# EAGLE library part TPS61027 (library IC)
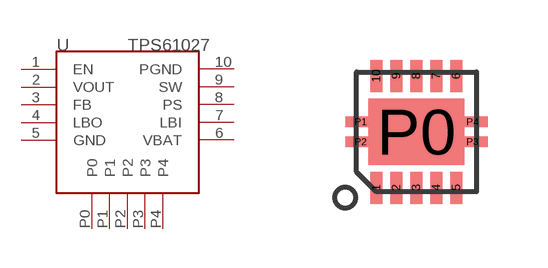
[diagram p144: symbol with the pads of QFN10; footprint QFN10]

Designator prefix U

## TPS61027  [QFN10]
1  EN
2  VOUT
3  FB
4  LBO
5  GND
6  VBAT
7  LBI
8  PS
9  SW
10  PGND
P0  P0
P1  P1
P2  P2
P3  P3
P4  P4

## Footprint QFN10 (pad centres in mm)
smd 0.3 x 0.8: 1 -1,-1.4; 2 -0.5,-1.4; 3 0,-1.4; 4 0.5,-1.4; 5 1,-1.4; 6 1,1.4; 7 0.5,1.4; 8 0,1.4; 9 -0.5,1.4; 10 -1,1.4
smd 2.4 x 1.65: P0 0,0
smd 0.762 x 0.254: P1 -1.4,0.25; P2 -1.4,-0.25; P3 1.4,-0.25; P4 1.4,0.25